# Altium footprint library Header-2mm-1X3-M-V.PcbLib: 1 footprints
Each footprint in its own frame and in the unit in brackets; x right, y up, seen from the top. Pads: shape width x height; smd on the part's side, far side on the other; paste and mask are expansions set on the pad; w line width, h text height; cw(c..) or ccw(c..) is an arc to the next point about the centre after c.
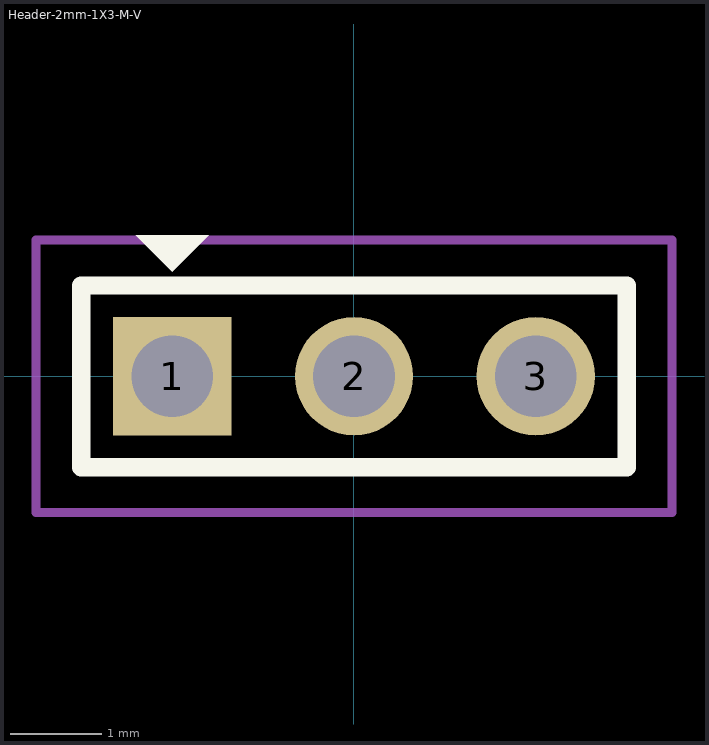
[diagram p0: the footprint, top view; thin cyan lines are the x and y axes]

## Header-2mm-1X3-M-V [mm]
pads (3):
  rect 1.3x1.3 hole 0.9: 1(-2,0)
  round 1.3 hole 0.9: 2(0,0) 3(2,0)
Top Overlay:
  region: -2.4,1.55 -1.6,1.55 -2,1.15
  lines w0.2: -3,-1 3,-1 3,1 -3,1 -3,-1
Top Courtyard:
  lines w0.1: -3.5,-1.5 -3.5,1.5 3.5,1.5 3.5,-1.5 -3,-1.5 -3.5,-1.5
3D body "pin header 1x3 pitch 2mm heigth 5mm.stp": height 6.01, standoff -2.69, extent -3,-1 3,1